# Altium schematic symbol library Summits7Beta_LIB_Pasivos_Sch.SchLib: 8 symbols
Pins are listed as number, name and electrical type; pins without a type are passive.

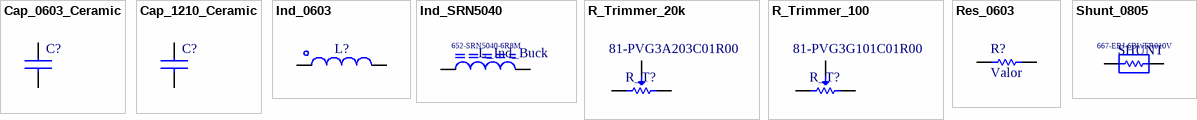
[diagram p0: symbols Cap_0603_Ceramic to Shunt_0805]

## Cap_0603_Ceramic
designator C?
Capac Ceramic SMD
footprint CAP_0603 (Footprint Cap Ceramic 0603)
pins: 1, 2

## Cap_1210_Ceramic
designator C?
Capac Ceramic SMD
footprint CAP_1210 (Footprint Cap Ceramic 1210)
pins: 1, 2

## Ind_0603
designator L?
Inductor SMD 0603; MF: Murata; MP: LQP03TN62NHZ2D; Value: *; SnapEDA_Link: https://www.snapeda.com/parts/LQP03TN62NHZ2D/Murata/view-part/4472751/?ref=snap; Price: None; Availability: Unavailable; Package: 0603 Murata
footprint IND_0603 (Footprint de Inductor 0603)
pins: 1, 2

## Ind_SRN5040
designator L_Ind_Buck, comment Supplier Part Number 1: 652-SRN5040-6R8M  (hidden comment: 6.8uH 2.3A)
Inductor_SRN5040; MF: Vishay Dale; Availability: Unavailable; Package: Nonstandard Vishay Dale; Value: *; Price: None; SnapEDA_Link: https://www.snapeda.com/parts/IHLP-2525CZ-01/Vishay%20Dale/view-part/561997/?ref=snap; Supplier 1: Mouser
footprint Inductor_SRN5040
pins: 1, 2

## R_Trimmer_20k
designator R_T?  Supplier Part Number 1: 81-PVG3A203C01R00
Trimmer Resistor SMD 20kohm; Published: 8-Jun-2000; LatestRevisionDate: 17-Jul-2002; LatestRevisionNote: Re-released for DXP Platform.; PackageReference: AXIAL-0.3; Publisher: Altium Limited; PackageDescription: Axial Device, Thru-Hole; 2 Leads; 0.3 in Pin Spacing; Supplier 1: Mouser
simulation model RESISTOR (Resistor)
signal-integrity model Res
footprint RES_TRIMMER (Trimmer)
pins: 1, 2, 3

## R_Trimmer_100
designator R_T?  Supplier Part Number 1: 81-PVG3G101C01R00
Trimmer Resistor SMD 100ohm; Published: 8-Jun-2000; LatestRevisionDate: 17-Jul-2002; LatestRevisionNote: Re-released for DXP Platform.; PackageReference: AXIAL-0.3; Publisher: Altium Limited; PackageDescription: Axial Device, Thru-Hole; 2 Leads; 0.3 in Pin Spacing; Supplier 1: Mouser
simulation model RESISTOR (Resistor)
signal-integrity model Res
footprint RES_TRIMMER (Trimmer)
pins: 1, 2, 3

## Res_0603
designator R?, comment Valor
Resistor SMD; Published: 8-Jun-2000; LatestRevisionDate: 17-Jul-2002; LatestRevisionNote: Re-released for DXP Platform.; PackageReference: AXIAL-0.3; Publisher: Altium Limited; PackageDescription: Axial Device, Thru-Hole; 2 Leads; 0.3 in Pin Spacing
simulation model RESISTOR (Resistor)
signal-integrity model Res
footprint RES_0603 (Footprint Resistor 0603)
pins: 1, 2

## Shunt_0805
designator SHUNT, comment Supplier Part Number 1: 667-ERJ-6BWFR010V  (hidden comment: 0.01 Ohm 0.5W 1%)
Shunt; Published: 8-Jun-2000; LatestRevisionDate: 17-Jul-2002; LatestRevisionNote: Re-released for DXP Platform.; PackageReference: AXIAL-0.3; Publisher: Altium Limited; PackageDescription: Axial Device, Thru-Hole; 2 Leads; 0.3 in Pin Spacing; Supplier 1: Mouser
simulation model RESISTOR (Resistor)
signal-integrity model Res
footprint RES-SHUNT-0805 (SHUNT 0805)
pins: 1, 2